# Altium footprint library EVE-JBBF2020B.PcbLib: 1 footprints
Each footprint in its own frame and in the unit in brackets; x right, y up, seen from the top. Pads: shape width x height; smd on the part's side, far side on the other; paste and mask are expansions set on the pad; w line width, h text height; cw(c..) or ccw(c..) is an arc to the next point about the centre after c.
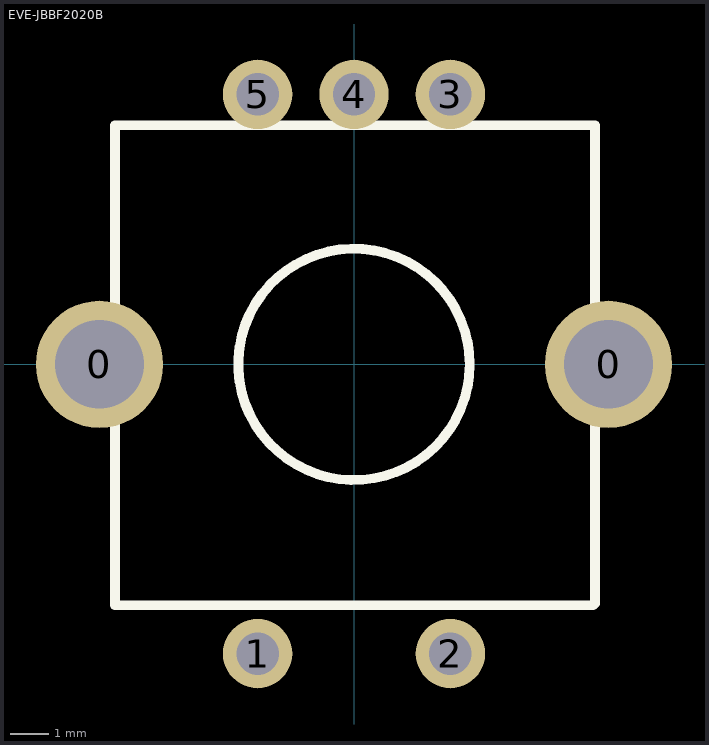
[diagram p0: the footprint, top view; thin cyan lines are the x and y axes]

## EVE-JBBF2020B [mm] "Panasonic Pushbutton Rotary Encoder"
height 20
pads (7):
  round 3.3 hole 2.3: 0(-6.6,0) 0(6.6,0)
  round 1.8 hole 1.1: 1(-2.5,-7.5) 2(2.5,-7.5) 3(2.5,7) 4(0,7) 5(-2.5,7)
Top Overlay:
  circle w0.254: c0,0 r3
  lines w0.254: -6.2,-6.246 6.2,-6.246 ; -6.2,-6.2 -6.2,6.2 6.2,6.2 ; 6.246,-6.2 6.246,6.2
3D body: height 20, standoff 0, extent -6.327,-6.373 6.373,6.327